# Altium integrated library TI Amplifiers and Linear Operational Amplifier Precision Amplifier Part Two.IntLib: 2300 symbols (part 13 of 81)
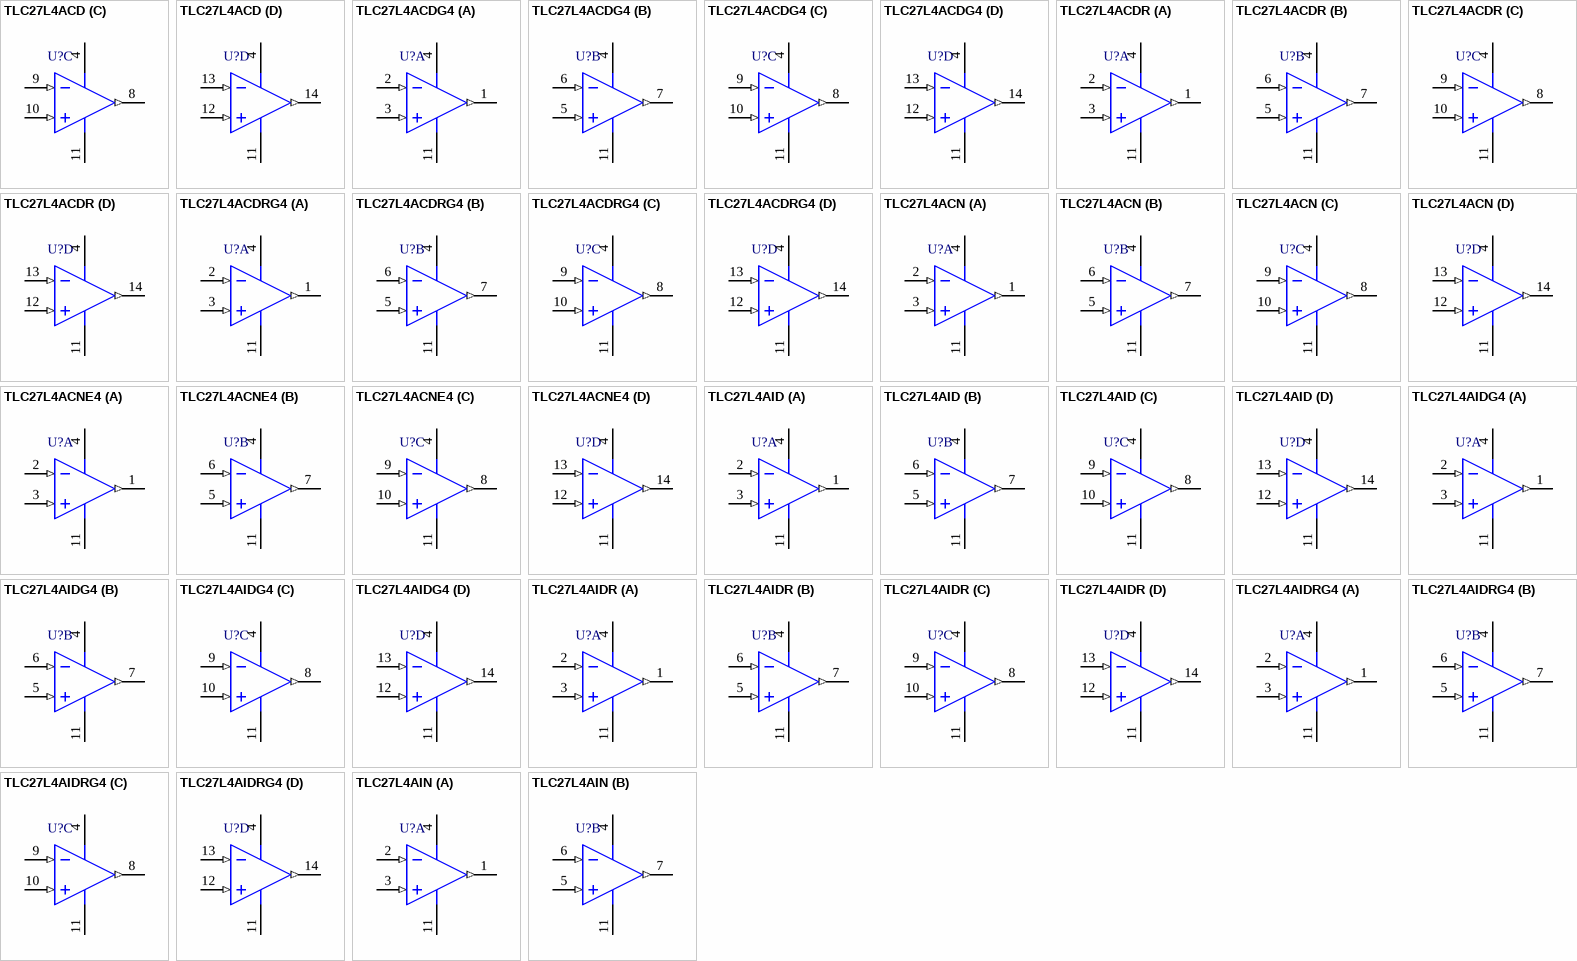
[diagram p148: symbols TLC27L4ACD to TLC27L4AIN]

## TLC27L4ACN
designator U?
LinCMOS(TM) Precision Quad Operational Amplifier, 3 to 16 V, 0 to 70 degC, 14-pin DIP (N14), Pb-Free (RoHS); Manufacturer: Texas Instruments; PartNumber: TLC27L4ACN; CMRR(Min)(dB): 65; GBW(Typ)(MHz): 0.085; IIB(Max)(pA): 600; Iq per channel(Max)(mA): 0.017; Number of Channels: 4; Offset Drift(Typ)(uV/C): 1.1; Packing: TUBE; Rating: Catalog; Slew Rate(Typ)(V/us): 0.03; Sub Family: Low Power Amp (<=500uA), Precision Amplifier; Total Supply Voltage(Max)(+5V is 5, +/-5V is 10): 16; Total Supply Voltage(Min)(+5V is 5, +/-5V is 10): 3; Vio (25C)(Max)(mV): 5; DatasheetVersion: SLOS053C; PackageVersion: 4040049/E, 12/2002; PackageReference: N14; PackageDescription: 14-Pin Plastic In-Line, Body 19.305 x 6.35 mm, Pitch 2.54 mm; Supplier 1: Digi-Key; Supplier Part Number 1: 296-7382-5-ND; Supplier 2: Farnell; Supplier Part Number 2: 9853928; Supplier 3: Newark; Supplier Part Number 3: 35K1191; Supplier 4: Mouser; Supplier Part Number 4: 595-TLC27L4ACN; Eco-Plan: Pb-Free (RoHS); Mounting Technology: Through Hole; Code_JEDEC: MS-001; ComponentLink1Description: Manufacturer URL; ComponentLink1URL: http://www.ti.com/; ComponentLink2Description: Datasheet; ComponentLink2URL: http://www.ti.com/lit/ds/symlink/tlc27l4a.pdf; ComponentLink3Description: Package Specification; ComponentLink3URL: http://www.ti.com/lit/ml/mpdi002c/mpdi002c.pdf
footprint TI-N14 (DIP, 14-Leads, Body 19.305x6.35 mm, Pitch 2.54 mm)
pins on every part: 4 VDD (power), 11 GND (power)
part A pins: 1 OUT1 (out), 2 IN1- (in), 3 IN1+ (in)
part B pins: 5 IN2+ (in), 6 IN2- (in), 7 OUT2 (out)
part C pins: 8 OUT3 (out), 9 IN3- (in), 10 IN3+ (in)
part D pins: 12 IN4+ (in), 13 IN4- (in), 14 OUT4 (out)

## TLC27L4ACNE4
designator U?
LinCMOS(TM) Precision Quad Operational Amplifier, 3 to 16 V, 0 to 70 degC, 14-pin DIP (N14), Pb-Free (RoHS); Manufacturer: Texas Instruments; PartNumber: TLC27L4ACNE4; CMRR(Min)(dB): 65; GBW(Typ)(MHz): 0.085; IIB(Max)(pA): 600; Iq per channel(Max)(mA): 0.017; Number of Channels: 4; Offset Drift(Typ)(uV/C): 1.1; Packing: TUBE; Rating: Catalog; Slew Rate(Typ)(V/us): 0.03; Sub Family: Low Power Amp (<=500uA), Precision Amplifier; Total Supply Voltage(Max)(+5V is 5, +/-5V is 10): 16; Total Supply Voltage(Min)(+5V is 5, +/-5V is 10): 3; Vio (25C)(Max)(mV): 5; DatasheetVersion: SLOS053C; PackageVersion: 4040049/E, 12/2002; PackageReference: N14; PackageDescription: 14-Pin Plastic In-Line, Body 19.305 x 6.35 mm, Pitch 2.54 mm; Supplier 1: Digi-Key; Supplier Part Number 1: TLC27L4ACNE4-ND; Supplier 2: Mouser; Supplier Part Number 2: 595-TLC27L4ACNE4; Eco-Plan: Pb-Free (RoHS); Mounting Technology: Through Hole; Code_JEDEC: MS-001; ComponentLink1Description: Manufacturer URL; ComponentLink1URL: http://www.ti.com/; ComponentLink2Description: Datasheet; ComponentLink2URL: http://www.ti.com/lit/ds/symlink/tlc27l4a.pdf; ComponentLink3Description: Package Specification; ComponentLink3URL: http://www.ti.com/lit/ml/mpdi002c/mpdi002c.pdf
footprint TI-N14 (DIP, 14-Leads, Body 19.305x6.35 mm, Pitch 2.54 mm)
pins on every part: 4 VDD (power), 11 GND (power)
part A pins: 1 OUT1 (out), 2 IN1- (in), 3 IN1+ (in)
part B pins: 5 IN2+ (in), 6 IN2- (in), 7 OUT2 (out)
part C pins: 8 OUT3 (out), 9 IN3- (in), 10 IN3+ (in)
part D pins: 12 IN4+ (in), 13 IN4- (in), 14 OUT4 (out)

## TLC27L4AID
designator U?
LinCMOS(TM) Precision Quad Operational Amplifier, 4 to 16 V, -40 to 85 degC, 14-pin SOIC (D14), Green (RoHS & no Sb/Br); Manufacturer: Texas Instruments; PartNumber: TLC27L4AID; CMRR(Min)(dB): 65; GBW(Typ)(MHz): 0.085; IIB(Max)(pA): 2000; Iq per channel(Max)(mA): 0.017; Number of Channels: 4; Offset Drift(Typ)(uV/C): 1.1; Packing: TUBE; Rating: Catalog; Slew Rate(Typ)(V/us): 0.03; Sub Family: Low Power Amp (<=500uA), Precision Amplifier; Total Supply Voltage(Max)(+5V is 5, +/-5V is 10): 16; Vio (25C)(Max)(mV): 5; DatasheetVersion: SLOS053C; PackageVersion: 4040047-5/M, 06/2011; PackageReference: D14; PackageDescription: 14-Pin Plastic Small Outline, Body 8.65 x 3.9 mm, Pitch 1.27 mm; Supplier 1: Digi-Key; Supplier Part Number 1: 296-7383-5-ND; Supplier 2: Mouser; Supplier Part Number 2: 595-TLC27L4AID; Eco-Plan: Green (RoHS & no Sb/Br); Total Supply Voltage(Min)(+5V is 5, +/-5V is 10): 4; Mounting Technology: Surface Mount; Code_JEDEC: MS-012; ComponentLink1Description: Manufacturer URL; ComponentLink1URL: http://www.ti.com/; ComponentLink2Description: Datasheet; ComponentLink2URL: http://www.ti.com/lit/ds/symlink/tlc27l4a.pdf; ComponentLink3Description: Package Specification; ComponentLink3URL: http://www.ti.com/lit/ml/mpds177g/mpds177g.pdf
footprint TI-D14_N (SOIC, 14-Leads, Body 8.65x3.9mm, Pitch 1.27mm, IPC Medium Density)
footprint TI-D14_L (SOIC, 14-Leads, Body 8.65x3.9mm, Pitch 1.27mm, IPC High Density)
footprint TI-D14_M (SOIC, 14-Leads, Body 8.65x3.9mm, Pitch 1.27mm, IPC Low Density)
pins on every part: 4 VDD (power), 11 GND (power)
part A pins: 1 OUT1 (out), 2 IN1- (in), 3 IN1+ (in)
part B pins: 5 IN2+ (in), 6 IN2- (in), 7 OUT2 (out)
part C pins: 8 OUT3 (out), 9 IN3- (in), 10 IN3+ (in)
part D pins: 12 IN4+ (in), 13 IN4- (in), 14 OUT4 (out)

## TLC27L4AIDG4
designator U?
LinCMOS(TM) Precision Quad Operational Amplifier, 4 to 16 V, -40 to 85 degC, 14-pin SOIC (D14), Green (RoHS & no Sb/Br); Manufacturer: Texas Instruments; PartNumber: TLC27L4AIDG4; CMRR(Min)(dB): 65; GBW(Typ)(MHz): 0.085; IIB(Max)(pA): 2000; Iq per channel(Max)(mA): 0.017; Number of Channels: 4; Offset Drift(Typ)(uV/C): 1.1; Packing: TUBE; Rating: Catalog; Slew Rate(Typ)(V/us): 0.03; Sub Family: Low Power Amp (<=500uA), Precision Amplifier; Total Supply Voltage(Max)(+5V is 5, +/-5V is 10): 16; Vio (25C)(Max)(mV): 5; DatasheetVersion: SLOS053C; PackageVersion: 4040047-5/M, 06/2011; PackageReference: D14; PackageDescription: 14-Pin Plastic Small Outline, Body 8.65 x 3.9 mm, Pitch 1.27 mm; Supplier 1: Digi-Key; Supplier Part Number 1: TLC27L4AIDG4-ND; Supplier 2: Farnell; Supplier Part Number 2: 1234765; Supplier 3: Newark; Supplier Part Number 3: 13M5500; Supplier 4: Mouser; Supplier Part Number 4: 595-TLC27L4AIDG4; Eco-Plan: Green (RoHS & no Sb/Br); Total Supply Voltage(Min)(+5V is 5, +/-5V is 10): 4; Mounting Technology: Surface Mount; Code_JEDEC: MS-012; ComponentLink1Description: Manufacturer URL; ComponentLink1URL: http://www.ti.com/; ComponentLink2Description: Datasheet; ComponentLink2URL: http://www.ti.com/lit/ds/symlink/tlc27l4a.pdf; ComponentLink3Description: Package Specification; ComponentLink3URL: http://www.ti.com/lit/ml/mpds177g/mpds177g.pdf
footprint TI-D14_N (SOIC, 14-Leads, Body 8.65x3.9mm, Pitch 1.27mm, IPC Medium Density)
footprint TI-D14_L (SOIC, 14-Leads, Body 8.65x3.9mm, Pitch 1.27mm, IPC High Density)
footprint TI-D14_M (SOIC, 14-Leads, Body 8.65x3.9mm, Pitch 1.27mm, IPC Low Density)
pins on every part: 4 VDD (power), 11 GND (power)
part A pins: 1 OUT1 (out), 2 IN1- (in), 3 IN1+ (in)
part B pins: 5 IN2+ (in), 6 IN2- (in), 7 OUT2 (out)
part C pins: 8 OUT3 (out), 9 IN3- (in), 10 IN3+ (in)
part D pins: 12 IN4+ (in), 13 IN4- (in), 14 OUT4 (out)

## TLC27L4AIDR
designator U?
LinCMOS(TM) Precision Quad Operational Amplifier, 4 to 16 V, -40 to 85 degC, 14-pin SOIC (D14), Green (RoHS & no Sb/Br); Manufacturer: Texas Instruments; PartNumber: TLC27L4AIDR; CMRR(Min)(dB): 65; GBW(Typ)(MHz): 0.085; IIB(Max)(pA): 2000; Iq per channel(Max)(mA): 0.017; Number of Channels: 4; Offset Drift(Typ)(uV/C): 1.1; Packing: LARGE T&R; Rating: Catalog; Slew Rate(Typ)(V/us): 0.03; Sub Family: Low Power Amp (<=500uA), Precision Amplifier; Total Supply Voltage(Max)(+5V is 5, +/-5V is 10): 16; Vio (25C)(Max)(mV): 5; DatasheetVersion: SLOS053C; PackageVersion: 4040047-5/M, 06/2011; PackageReference: D14; PackageDescription: 14-Pin Plastic Small Outline, Body 8.65 x 3.9 mm, Pitch 1.27 mm; Supplier 1: Digi-Key; Supplier Part Number 1: TLC27L4AIDR-ND; Supplier 2: Newark; Supplier Part Number 2: 76C7101; Supplier 3: Mouser; Supplier Part Number 3: 595-TLC27L4AIDR; Eco-Plan: Green (RoHS & no Sb/Br); Total Supply Voltage(Min)(+5V is 5, +/-5V is 10): 4; Mounting Technology: Surface Mount; Code_JEDEC: MS-012; ComponentLink1Description: Manufacturer URL; ComponentLink1URL: http://www.ti.com/; ComponentLink2Description: Datasheet; ComponentLink2URL: http://www.ti.com/lit/ds/symlink/tlc27l4a.pdf; ComponentLink3Description: Package Specification; ComponentLink3URL: http://www.ti.com/lit/ml/mpds177g/mpds177g.pdf
footprint TI-D14_N (SOIC, 14-Leads, Body 8.65x3.9mm, Pitch 1.27mm, IPC Medium Density)
footprint TI-D14_L (SOIC, 14-Leads, Body 8.65x3.9mm, Pitch 1.27mm, IPC High Density)
footprint TI-D14_M (SOIC, 14-Leads, Body 8.65x3.9mm, Pitch 1.27mm, IPC Low Density)
pins on every part: 4 VDD (power), 11 GND (power)
part A pins: 1 OUT1 (out), 2 IN1- (in), 3 IN1+ (in)
part B pins: 5 IN2+ (in), 6 IN2- (in), 7 OUT2 (out)
part C pins: 8 OUT3 (out), 9 IN3- (in), 10 IN3+ (in)
part D pins: 12 IN4+ (in), 13 IN4- (in), 14 OUT4 (out)

## TLC27L4AIDRG4
designator U?
LinCMOS(TM) Precision Quad Operational Amplifier, 4 to 16 V, -40 to 85 degC, 14-pin SOIC (D14), Green (RoHS & no Sb/Br); Manufacturer: Texas Instruments; PartNumber: TLC27L4AIDRG4; CMRR(Min)(dB): 65; GBW(Typ)(MHz): 0.085; IIB(Max)(pA): 2000; Iq per channel(Max)(mA): 0.017; Number of Channels: 4; Offset Drift(Typ)(uV/C): 1.1; Packing: LARGE T&R; Rating: Catalog; Slew Rate(Typ)(V/us): 0.03; Sub Family: Low Power Amp (<=500uA), Precision Amplifier; Total Supply Voltage(Max)(+5V is 5, +/-5V is 10): 16; Vio (25C)(Max)(mV): 5; DatasheetVersion: SLOS053C; PackageVersion: 4040047-5/M, 06/2011; PackageReference: D14; PackageDescription: 14-Pin Plastic Small Outline, Body 8.65 x 3.9 mm, Pitch 1.27 mm; Supplier 1: Digi-Key; Supplier Part Number 1: TLC27L4AIDRG4-ND; Supplier 2: Mouser; Supplier Part Number 2: 595-TLC27L4AIDRG4; Eco-Plan: Green (RoHS & no Sb/Br); Total Supply Voltage(Min)(+5V is 5, +/-5V is 10): 4; Mounting Technology: Surface Mount; Code_JEDEC: MS-012; ComponentLink1Description: Manufacturer URL; ComponentLink1URL: http://www.ti.com/; ComponentLink2Description: Datasheet; ComponentLink2URL: http://www.ti.com/lit/ds/symlink/tlc27l4a.pdf; ComponentLink3Description: Package Specification; ComponentLink3URL: http://www.ti.com/lit/ml/mpds177g/mpds177g.pdf
footprint TI-D14_N (SOIC, 14-Leads, Body 8.65x3.9mm, Pitch 1.27mm, IPC Medium Density)
footprint TI-D14_L (SOIC, 14-Leads, Body 8.65x3.9mm, Pitch 1.27mm, IPC High Density)
footprint TI-D14_M (SOIC, 14-Leads, Body 8.65x3.9mm, Pitch 1.27mm, IPC Low Density)
pins on every part: 4 VDD (power), 11 GND (power)
part A pins: 1 OUT1 (out), 2 IN1- (in), 3 IN1+ (in)
part B pins: 5 IN2+ (in), 6 IN2- (in), 7 OUT2 (out)
part C pins: 8 OUT3 (out), 9 IN3- (in), 10 IN3+ (in)
part D pins: 12 IN4+ (in), 13 IN4- (in), 14 OUT4 (out)

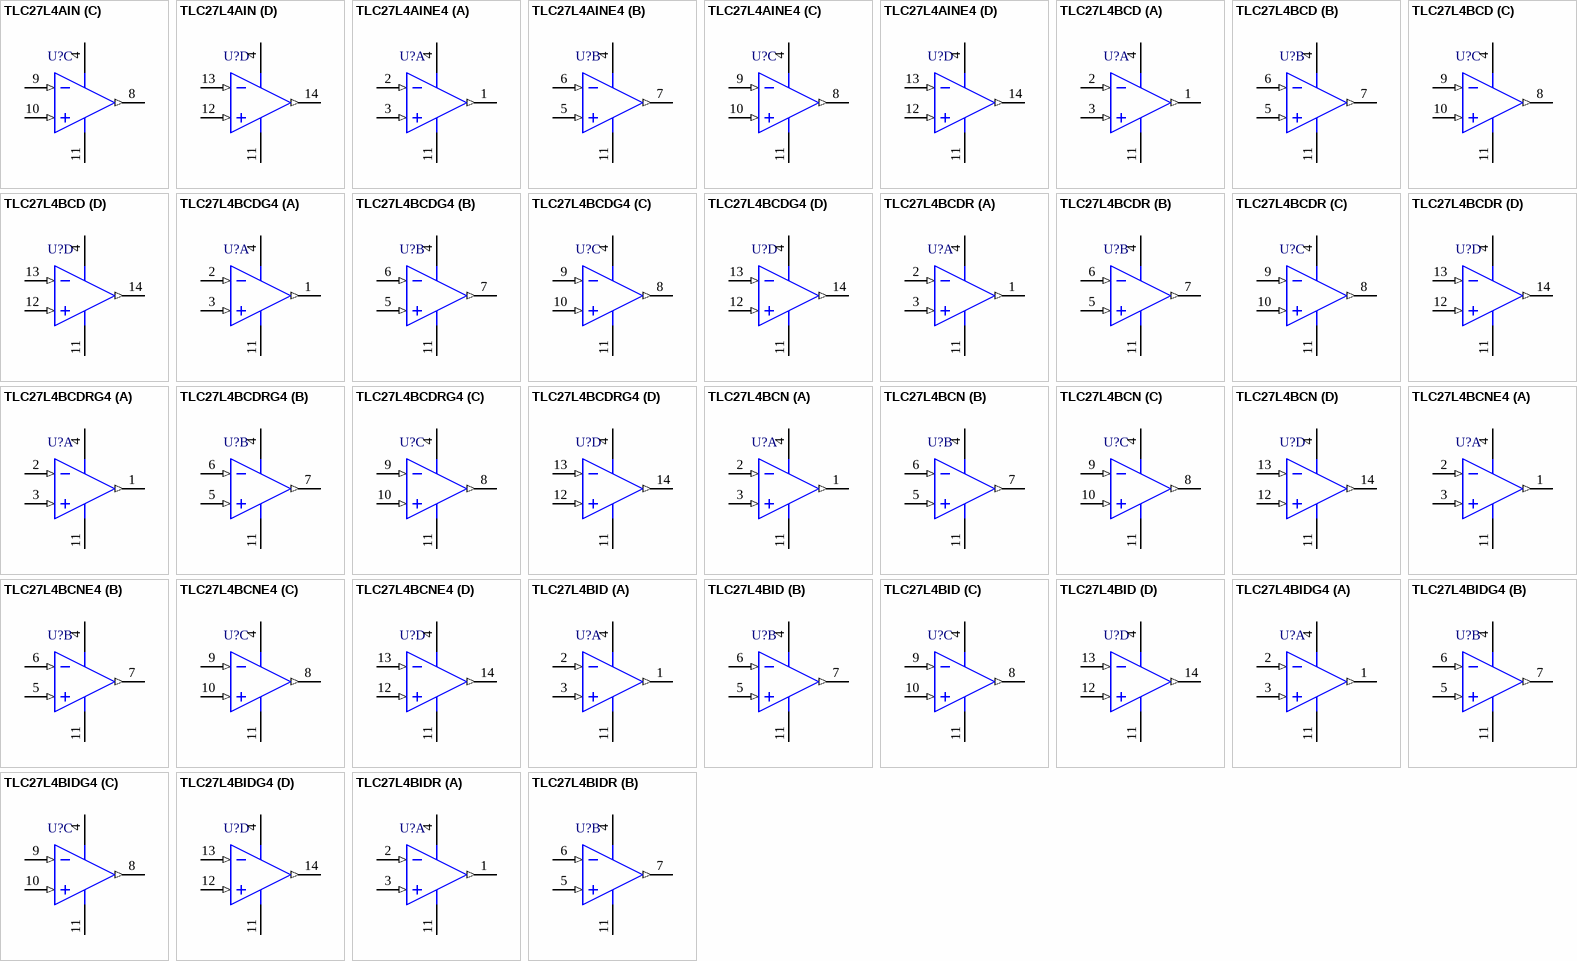
[diagram p19: symbols TLC27L4AIN to TLC27L4BIDR]

## TLC27L4AIN
designator U?
LinCMOS(TM) Precision Quad Operational Amplifier, 4 to 16 V, -40 to 85 degC, 14-pin DIP (N14), Pb-Free (RoHS); Manufacturer: Texas Instruments; PartNumber: TLC27L4AIN; CMRR(Min)(dB): 65; GBW(Typ)(MHz): 0.085; IIB(Max)(pA): 2000; Iq per channel(Max)(mA): 0.017; Number of Channels: 4; Offset Drift(Typ)(uV/C): 1.1; Packing: TUBE; Rating: Catalog; Slew Rate(Typ)(V/us): 0.03; Sub Family: Low Power Amp (<=500uA), Precision Amplifier; Total Supply Voltage(Max)(+5V is 5, +/-5V is 10): 16; Vio (25C)(Max)(mV): 5; DatasheetVersion: SLOS053C; PackageVersion: 4040049/E, 12/2002; PackageReference: N14; PackageDescription: 14-Pin Plastic In-Line, Body 19.305 x 6.35 mm, Pitch 2.54 mm; Supplier 1: Digi-Key; Supplier Part Number 1: 296-7384-5-ND; Supplier 2: Mouser; Supplier Part Number 2: 595-TLC27L4AIN; Eco-Plan: Pb-Free (RoHS); Total Supply Voltage(Min)(+5V is 5, +/-5V is 10): 4; Mounting Technology: Through Hole; Code_JEDEC: MS-001; ComponentLink1Description: Manufacturer URL; ComponentLink1URL: http://www.ti.com/; ComponentLink2Description: Datasheet; ComponentLink2URL: http://www.ti.com/lit/ds/symlink/tlc27l4a.pdf; ComponentLink3Description: Package Specification; ComponentLink3URL: http://www.ti.com/lit/ml/mpdi002c/mpdi002c.pdf
footprint TI-N14 (DIP, 14-Leads, Body 19.305x6.35 mm, Pitch 2.54 mm)
pins on every part: 4 VDD (power), 11 GND (power)
part A pins: 1 OUT1 (out), 2 IN1- (in), 3 IN1+ (in)
part B pins: 5 IN2+ (in), 6 IN2- (in), 7 OUT2 (out)
part C pins: 8 OUT3 (out), 9 IN3- (in), 10 IN3+ (in)
part D pins: 12 IN4+ (in), 13 IN4- (in), 14 OUT4 (out)

## TLC27L4AINE4
designator U?
LinCMOS(TM) Precision Quad Operational Amplifier, 4 to 16 V, -40 to 85 degC, 14-pin DIP (N14), Pb-Free (RoHS); Manufacturer: Texas Instruments; PartNumber: TLC27L4AINE4; CMRR(Min)(dB): 65; GBW(Typ)(MHz): 0.085; IIB(Max)(pA): 2000; Iq per channel(Max)(mA): 0.017; Number of Channels: 4; Offset Drift(Typ)(uV/C): 1.1; Packing: TUBE; Rating: Catalog; Slew Rate(Typ)(V/us): 0.03; Sub Family: Low Power Amp (<=500uA), Precision Amplifier; Total Supply Voltage(Max)(+5V is 5, +/-5V is 10): 16; Vio (25C)(Max)(mV): 5; DatasheetVersion: SLOS053C; PackageVersion: 4040049/E, 12/2002; PackageReference: N14; PackageDescription: 14-Pin Plastic In-Line, Body 19.305 x 6.35 mm, Pitch 2.54 mm; Supplier 1: Digi-Key; Supplier Part Number 1: TLC27L4AINE4-ND; Supplier 2: Mouser; Supplier Part Number 2: 595-TLC27L4AINE4; Eco-Plan: Pb-Free (RoHS); Total Supply Voltage(Min)(+5V is 5, +/-5V is 10): 4; Mounting Technology: Through Hole; Code_JEDEC: MS-001; ComponentLink1Description: Manufacturer URL; ComponentLink1URL: http://www.ti.com/; ComponentLink2Description: Datasheet; ComponentLink2URL: http://www.ti.com/lit/ds/symlink/tlc27l4a.pdf; ComponentLink3Description: Package Specification; ComponentLink3URL: http://www.ti.com/lit/ml/mpdi002c/mpdi002c.pdf
footprint TI-N14 (DIP, 14-Leads, Body 19.305x6.35 mm, Pitch 2.54 mm)
pins on every part: 4 VDD (power), 11 GND (power)
part A pins: 1 OUT1 (out), 2 IN1- (in), 3 IN1+ (in)
part B pins: 5 IN2+ (in), 6 IN2- (in), 7 OUT2 (out)
part C pins: 8 OUT3 (out), 9 IN3- (in), 10 IN3+ (in)
part D pins: 12 IN4+ (in), 13 IN4- (in), 14 OUT4 (out)

## TLC27L4BCD
designator U?
LinCMOS(TM) Precision Quad Operational Amplifier, 3 to 16 V, 0 to 70 degC, 14-pin SOIC (D14), Green (RoHS & no Sb/Br); Manufacturer: Texas Instruments; PartNumber: TLC27L4BCD; CMRR(Min)(dB): 65; GBW(Typ)(MHz): 0.085; IIB(Max)(pA): 600; Iq per channel(Max)(mA): 0.017; Number of Channels: 4; Offset Drift(Typ)(uV/C): 1.1; Packing: TUBE; Rating: Catalog; Slew Rate(Typ)(V/us): 0.03; Sub Family: Low Power Amp (<=500uA), Precision Amplifier; Total Supply Voltage(Max)(+5V is 5, +/-5V is 10): 16; Total Supply Voltage(Min)(+5V is 5, +/-5V is 10): 3; Vio (25C)(Max)(mV): 2; DatasheetVersion: SLOS053C; PackageVersion: 4040047-5/M, 06/2011; PackageReference: D14; PackageDescription: 14-Pin Plastic Small Outline, Body 8.65 x 3.9 mm, Pitch 1.27 mm; Supplier 1: Digi-Key; Supplier Part Number 1: 296-7385-5-ND; Supplier 2: Newark; Supplier Part Number 2: 76C7102; Supplier 3: Mouser; Supplier Part Number 3: 595-TLC27L4BCD; Eco-Plan: Green (RoHS & no Sb/Br); Mounting Technology: Surface Mount; Code_JEDEC: MS-012; ComponentLink1Description: Manufacturer URL; ComponentLink1URL: http://www.ti.com/; ComponentLink2Description: Datasheet; ComponentLink2URL: http://www.ti.com/lit/ds/symlink/tlc27l4b.pdf; ComponentLink3Description: Package Specification; ComponentLink3URL: http://www.ti.com/lit/ml/mpds177g/mpds177g.pdf
footprint TI-D14_N (SOIC, 14-Leads, Body 8.65x3.9mm, Pitch 1.27mm, IPC Medium Density)
footprint TI-D14_L (SOIC, 14-Leads, Body 8.65x3.9mm, Pitch 1.27mm, IPC High Density)
footprint TI-D14_M (SOIC, 14-Leads, Body 8.65x3.9mm, Pitch 1.27mm, IPC Low Density)
pins on every part: 4 VDD (power), 11 GND (power)
part A pins: 1 OUT1 (out), 2 IN1- (in), 3 IN1+ (in)
part B pins: 5 IN2+ (in), 6 IN2- (in), 7 OUT2 (out)
part C pins: 8 OUT3 (out), 9 IN3- (in), 10 IN3+ (in)
part D pins: 12 IN4+ (in), 13 IN4- (in), 14 OUT4 (out)

## TLC27L4BCDG4
designator U?
LinCMOS(TM) Precision Quad Operational Amplifier, 3 to 16 V, 0 to 70 degC, 14-pin SOIC (D14), Green (RoHS & no Sb/Br); Manufacturer: Texas Instruments; PartNumber: TLC27L4BCDG4; CMRR(Min)(dB): 65; GBW(Typ)(MHz): 0.085; IIB(Max)(pA): 600; Iq per channel(Max)(mA): 0.017; Number of Channels: 4; Offset Drift(Typ)(uV/C): 1.1; Packing: TUBE; Rating: Catalog; Slew Rate(Typ)(V/us): 0.03; Sub Family: Low Power Amp (<=500uA), Precision Amplifier; Total Supply Voltage(Max)(+5V is 5, +/-5V is 10): 16; Total Supply Voltage(Min)(+5V is 5, +/-5V is 10): 3; Vio (25C)(Max)(mV): 2; DatasheetVersion: SLOS053C; PackageVersion: 4040047-5/M, 06/2011; PackageReference: D14; PackageDescription: 14-Pin Plastic Small Outline, Body 8.65 x 3.9 mm, Pitch 1.27 mm; Supplier 1: Digi-Key; Supplier Part Number 1: TLC27L4BCDG4-ND; Supplier 2: Mouser; Supplier Part Number 2: 595-TLC27L4BCDG4; Eco-Plan: Green (RoHS & no Sb/Br); Mounting Technology: Surface Mount; Code_JEDEC: MS-012; ComponentLink1Description: Manufacturer URL; ComponentLink1URL: http://www.ti.com/; ComponentLink2Description: Datasheet; ComponentLink2URL: http://www.ti.com/lit/ds/symlink/tlc27l4b.pdf; ComponentLink3Description: Package Specification; ComponentLink3URL: http://www.ti.com/lit/ml/mpds177g/mpds177g.pdf
footprint TI-D14_N (SOIC, 14-Leads, Body 8.65x3.9mm, Pitch 1.27mm, IPC Medium Density)
footprint TI-D14_L (SOIC, 14-Leads, Body 8.65x3.9mm, Pitch 1.27mm, IPC High Density)
footprint TI-D14_M (SOIC, 14-Leads, Body 8.65x3.9mm, Pitch 1.27mm, IPC Low Density)
pins on every part: 4 VDD (power), 11 GND (power)
part A pins: 1 OUT1 (out), 2 IN1- (in), 3 IN1+ (in)
part B pins: 5 IN2+ (in), 6 IN2- (in), 7 OUT2 (out)
part C pins: 8 OUT3 (out), 9 IN3- (in), 10 IN3+ (in)
part D pins: 12 IN4+ (in), 13 IN4- (in), 14 OUT4 (out)

## TLC27L4BCDR
designator U?
LinCMOS(TM) Precision Quad Operational Amplifier, 3 to 16 V, 0 to 70 degC, 14-pin SOIC (D14), Green (RoHS & no Sb/Br); Manufacturer: Texas Instruments; PartNumber: TLC27L4BCDR; CMRR(Min)(dB): 65; GBW(Typ)(MHz): 0.085; IIB(Max)(pA): 600; Iq per channel(Max)(mA): 0.017; Number of Channels: 4; Offset Drift(Typ)(uV/C): 1.1; Packing: LARGE T&R; Rating: Catalog; Slew Rate(Typ)(V/us): 0.03; Sub Family: Low Power Amp (<=500uA), Precision Amplifier; Total Supply Voltage(Max)(+5V is 5, +/-5V is 10): 16; Total Supply Voltage(Min)(+5V is 5, +/-5V is 10): 3; Vio (25C)(Max)(mV): 2; DatasheetVersion: SLOS053C; PackageVersion: 4040047-5/M, 06/2011; PackageReference: D14; PackageDescription: 14-Pin Plastic Small Outline, Body 8.65 x 3.9 mm, Pitch 1.27 mm; Supplier 1: Digi-Key; Supplier Part Number 1: TLC27L4BCDR-ND; Supplier 2: Mouser; Supplier Part Number 2: 595-TLC27L4BCDR; Eco-Plan: Green (RoHS & no Sb/Br); Mounting Technology: Surface Mount; Code_JEDEC: MS-012; ComponentLink1Description: Manufacturer URL; ComponentLink1URL: http://www.ti.com/; ComponentLink2Description: Datasheet; ComponentLink2URL: http://www.ti.com/lit/ds/symlink/tlc27l4b.pdf; ComponentLink3Description: Package Specification; ComponentLink3URL: http://www.ti.com/lit/ml/mpds177g/mpds177g.pdf
footprint TI-D14_N (SOIC, 14-Leads, Body 8.65x3.9mm, Pitch 1.27mm, IPC Medium Density)
footprint TI-D14_L (SOIC, 14-Leads, Body 8.65x3.9mm, Pitch 1.27mm, IPC High Density)
footprint TI-D14_M (SOIC, 14-Leads, Body 8.65x3.9mm, Pitch 1.27mm, IPC Low Density)
pins on every part: 4 VDD (power), 11 GND (power)
part A pins: 1 OUT1 (out), 2 IN1- (in), 3 IN1+ (in)
part B pins: 5 IN2+ (in), 6 IN2- (in), 7 OUT2 (out)
part C pins: 8 OUT3 (out), 9 IN3- (in), 10 IN3+ (in)
part D pins: 12 IN4+ (in), 13 IN4- (in), 14 OUT4 (out)

## TLC27L4BCDRG4
designator U?
LinCMOS(TM) Precision Quad Operational Amplifier, 3 to 16 V, 0 to 70 degC, 14-pin SOIC (D14), Green (RoHS & no Sb/Br); Manufacturer: Texas Instruments; PartNumber: TLC27L4BCDRG4; CMRR(Min)(dB): 65; GBW(Typ)(MHz): 0.085; IIB(Max)(pA): 600; Iq per channel(Max)(mA): 0.017; Number of Channels: 4; Offset Drift(Typ)(uV/C): 1.1; Packing: LARGE T&R; Rating: Catalog; Slew Rate(Typ)(V/us): 0.03; Sub Family: Low Power Amp (<=500uA), Precision Amplifier; Total Supply Voltage(Max)(+5V is 5, +/-5V is 10): 16; Total Supply Voltage(Min)(+5V is 5, +/-5V is 10): 3; Vio (25C)(Max)(mV): 2; DatasheetVersion: SLOS053C; PackageVersion: 4040047-5/M, 06/2011; PackageReference: D14; PackageDescription: 14-Pin Plastic Small Outline, Body 8.65 x 3.9 mm, Pitch 1.27 mm; Supplier 1: Digi-Key; Supplier Part Number 1: TLC27L4BCDRG4-ND; Supplier 2: Mouser; Supplier Part Number 2: 595-TLC27L4BCDRG4; Eco-Plan: Green (RoHS & no Sb/Br); Mounting Technology: Surface Mount; Code_JEDEC: MS-012; ComponentLink1Description: Manufacturer URL; ComponentLink1URL: http://www.ti.com/; ComponentLink2Description: Datasheet; ComponentLink2URL: http://www.ti.com/lit/ds/symlink/tlc27l4b.pdf; ComponentLink3Description: Package Specification; ComponentLink3URL: http://www.ti.com/lit/ml/mpds177g/mpds177g.pdf
footprint TI-D14_N (SOIC, 14-Leads, Body 8.65x3.9mm, Pitch 1.27mm, IPC Medium Density)
footprint TI-D14_L (SOIC, 14-Leads, Body 8.65x3.9mm, Pitch 1.27mm, IPC High Density)
footprint TI-D14_M (SOIC, 14-Leads, Body 8.65x3.9mm, Pitch 1.27mm, IPC Low Density)
pins on every part: 4 VDD (power), 11 GND (power)
part A pins: 1 OUT1 (out), 2 IN1- (in), 3 IN1+ (in)
part B pins: 5 IN2+ (in), 6 IN2- (in), 7 OUT2 (out)
part C pins: 8 OUT3 (out), 9 IN3- (in), 10 IN3+ (in)
part D pins: 12 IN4+ (in), 13 IN4- (in), 14 OUT4 (out)

## TLC27L4BCN
designator U?
LinCMOS(TM) Precision Quad Operational Amplifier, 3 to 16 V, 0 to 70 degC, 14-pin DIP (N14), Pb-Free (RoHS); Manufacturer: Texas Instruments; PartNumber: TLC27L4BCN; CMRR(Min)(dB): 65; GBW(Typ)(MHz): 0.085; IIB(Max)(pA): 600; Iq per channel(Max)(mA): 0.017; Number of Channels: 4; Offset Drift(Typ)(uV/C): 1.1; Packing: TUBE; Rating: Catalog; Slew Rate(Typ)(V/us): 0.03; Sub Family: Low Power Amp (<=500uA), Precision Amplifier; Total Supply Voltage(Max)(+5V is 5, +/-5V is 10): 16; Total Supply Voltage(Min)(+5V is 5, +/-5V is 10): 3; Vio (25C)(Max)(mV): 2; DatasheetVersion: SLOS053C; PackageVersion: 4040049/E, 12/2002; PackageReference: N14; PackageDescription: 14-Pin Plastic In-Line, Body 19.305 x 6.35 mm, Pitch 2.54 mm; Supplier 1: Digi-Key; Supplier Part Number 1: 296-7386-5-ND; Supplier 2: Mouser; Supplier Part Number 2: 595-TLC27L4BCN; Eco-Plan: Pb-Free (RoHS); Mounting Technology: Through Hole; Code_JEDEC: MS-001; ComponentLink1Description: Manufacturer URL; ComponentLink1URL: http://www.ti.com/; ComponentLink2Description: Datasheet; ComponentLink2URL: http://www.ti.com/lit/ds/symlink/tlc27l4b.pdf; ComponentLink3Description: Package Specification; ComponentLink3URL: http://www.ti.com/lit/ml/mpdi002c/mpdi002c.pdf
footprint TI-N14 (DIP, 14-Leads, Body 19.305x6.35 mm, Pitch 2.54 mm)
pins on every part: 4 VDD (power), 11 GND (power)
part A pins: 1 OUT1 (out), 2 IN1- (in), 3 IN1+ (in)
part B pins: 5 IN2+ (in), 6 IN2- (in), 7 OUT2 (out)
part C pins: 8 OUT3 (out), 9 IN3- (in), 10 IN3+ (in)
part D pins: 12 IN4+ (in), 13 IN4- (in), 14 OUT4 (out)

## TLC27L4BCNE4
designator U?
LinCMOS(TM) Precision Quad Operational Amplifier, 3 to 16 V, 0 to 70 degC, 14-pin DIP (N14), Pb-Free (RoHS); Manufacturer: Texas Instruments; PartNumber: TLC27L4BCNE4; CMRR(Min)(dB): 65; GBW(Typ)(MHz): 0.085; IIB(Max)(pA): 600; Iq per channel(Max)(mA): 0.017; Number of Channels: 4; Offset Drift(Typ)(uV/C): 1.1; Packing: TUBE; Rating: Catalog; Slew Rate(Typ)(V/us): 0.03; Sub Family: Low Power Amp (<=500uA), Precision Amplifier; Total Supply Voltage(Max)(+5V is 5, +/-5V is 10): 16; Total Supply Voltage(Min)(+5V is 5, +/-5V is 10): 3; Vio (25C)(Max)(mV): 2; DatasheetVersion: SLOS053C; PackageVersion: 4040049/E, 12/2002; PackageReference: N14; PackageDescription: 14-Pin Plastic In-Line, Body 19.305 x 6.35 mm, Pitch 2.54 mm; Supplier 1: Digi-Key; Supplier Part Number 1: TLC27L4BCNE4-ND; Supplier 2: Mouser; Supplier Part Number 2: 595-TLC27L4BCNE4; Eco-Plan: Pb-Free (RoHS); Mounting Technology: Through Hole; Code_JEDEC: MS-001; ComponentLink1Description: Manufacturer URL; ComponentLink1URL: http://www.ti.com/; ComponentLink2Description: Datasheet; ComponentLink2URL: http://www.ti.com/lit/ds/symlink/tlc27l4b.pdf; ComponentLink3Description: Package Specification; ComponentLink3URL: http://www.ti.com/lit/ml/mpdi002c/mpdi002c.pdf
footprint TI-N14 (DIP, 14-Leads, Body 19.305x6.35 mm, Pitch 2.54 mm)
pins on every part: 4 VDD (power), 11 GND (power)
part A pins: 1 OUT1 (out), 2 IN1- (in), 3 IN1+ (in)
part B pins: 5 IN2+ (in), 6 IN2- (in), 7 OUT2 (out)
part C pins: 8 OUT3 (out), 9 IN3- (in), 10 IN3+ (in)
part D pins: 12 IN4+ (in), 13 IN4- (in), 14 OUT4 (out)

## TLC27L4BID
designator U?
LinCMOS(TM) Precision Quad Operational Amplifier, 4 to 16 V, -40 to 85 degC, 14-pin SOIC (D14), Green (RoHS & no Sb/Br); Manufacturer: Texas Instruments; PartNumber: TLC27L4BID; CMRR(Min)(dB): 65; GBW(Typ)(MHz): 0.085; IIB(Max)(pA): 2000; Iq per channel(Max)(mA): 0.017; Number of Channels: 4; Offset Drift(Typ)(uV/C): 1.1; Packing: TUBE; Rating: Catalog; Slew Rate(Typ)(V/us): 0.03; Sub Family: Low Power Amp (<=500uA), Precision Amplifier; Total Supply Voltage(Max)(+5V is 5, +/-5V is 10): 16; Vio (25C)(Max)(mV): 2; DatasheetVersion: SLOS053C; PackageVersion: 4040047-5/M, 06/2011; PackageReference: D14; PackageDescription: 14-Pin Plastic Small Outline, Body 8.65 x 3.9 mm, Pitch 1.27 mm; Supplier 1: Digi-Key; Supplier Part Number 1: 296-7387-5-ND; Supplier 2: Mouser; Supplier Part Number 2: 595-TLC27L4BID; Eco-Plan: Green (RoHS & no Sb/Br); Total Supply Voltage(Min)(+5V is 5, +/-5V is 10): 4; Mounting Technology: Surface Mount; Code_JEDEC: MS-012; ComponentLink1Description: Manufacturer URL; ComponentLink1URL: http://www.ti.com/; ComponentLink2Description: Datasheet; ComponentLink2URL: http://www.ti.com/lit/ds/symlink/tlc27l4b.pdf; ComponentLink3Description: Package Specification; ComponentLink3URL: http://www.ti.com/lit/ml/mpds177g/mpds177g.pdf
footprint TI-D14_N (SOIC, 14-Leads, Body 8.65x3.9mm, Pitch 1.27mm, IPC Medium Density)
footprint TI-D14_L (SOIC, 14-Leads, Body 8.65x3.9mm, Pitch 1.27mm, IPC High Density)
footprint TI-D14_M (SOIC, 14-Leads, Body 8.65x3.9mm, Pitch 1.27mm, IPC Low Density)
pins on every part: 4 VDD (power), 11 GND (power)
part A pins: 1 OUT1 (out), 2 IN1- (in), 3 IN1+ (in)
part B pins: 5 IN2+ (in), 6 IN2- (in), 7 OUT2 (out)
part C pins: 8 OUT3 (out), 9 IN3- (in), 10 IN3+ (in)
part D pins: 12 IN4+ (in), 13 IN4- (in), 14 OUT4 (out)

## TLC27L4BIDG4
designator U?
LinCMOS(TM) Precision Quad Operational Amplifier, 4 to 16 V, -40 to 85 degC, 14-pin SOIC (D14), Green (RoHS & no Sb/Br); Manufacturer: Texas Instruments; PartNumber: TLC27L4BIDG4; CMRR(Min)(dB): 65; GBW(Typ)(MHz): 0.085; IIB(Max)(pA): 2000; Iq per channel(Max)(mA): 0.017; Number of Channels: 4; Offset Drift(Typ)(uV/C): 1.1; Packing: TUBE; Rating: Catalog; Slew Rate(Typ)(V/us): 0.03; Sub Family: Low Power Amp (<=500uA), Precision Amplifier; Total Supply Voltage(Max)(+5V is 5, +/-5V is 10): 16; Vio (25C)(Max)(mV): 2; DatasheetVersion: SLOS053C; PackageVersion: 4040047-5/M, 06/2011; PackageReference: D14; PackageDescription: 14-Pin Plastic Small Outline, Body 8.65 x 3.9 mm, Pitch 1.27 mm; Supplier 1: Digi-Key; Supplier Part Number 1: TLC27L4BIDG4-ND; Supplier 2: Mouser; Supplier Part Number 2: 595-TLC27L4BIDG4; Eco-Plan: Green (RoHS & no Sb/Br); Total Supply Voltage(Min)(+5V is 5, +/-5V is 10): 4; Mounting Technology: Surface Mount; Code_JEDEC: MS-012; ComponentLink1Description: Manufacturer URL; ComponentLink1URL: http://www.ti.com/; ComponentLink2Description: Datasheet; ComponentLink2URL: http://www.ti.com/lit/ds/symlink/tlc27l4b.pdf; ComponentLink3Description: Package Specification; ComponentLink3URL: http://www.ti.com/lit/ml/mpds177g/mpds177g.pdf
footprint TI-D14_N (SOIC, 14-Leads, Body 8.65x3.9mm, Pitch 1.27mm, IPC Medium Density)
footprint TI-D14_L (SOIC, 14-Leads, Body 8.65x3.9mm, Pitch 1.27mm, IPC High Density)
footprint TI-D14_M (SOIC, 14-Leads, Body 8.65x3.9mm, Pitch 1.27mm, IPC Low Density)
pins on every part: 4 VDD (power), 11 GND (power)
part A pins: 1 OUT1 (out), 2 IN1- (in), 3 IN1+ (in)
part B pins: 5 IN2+ (in), 6 IN2- (in), 7 OUT2 (out)
part C pins: 8 OUT3 (out), 9 IN3- (in), 10 IN3+ (in)
part D pins: 12 IN4+ (in), 13 IN4- (in), 14 OUT4 (out)

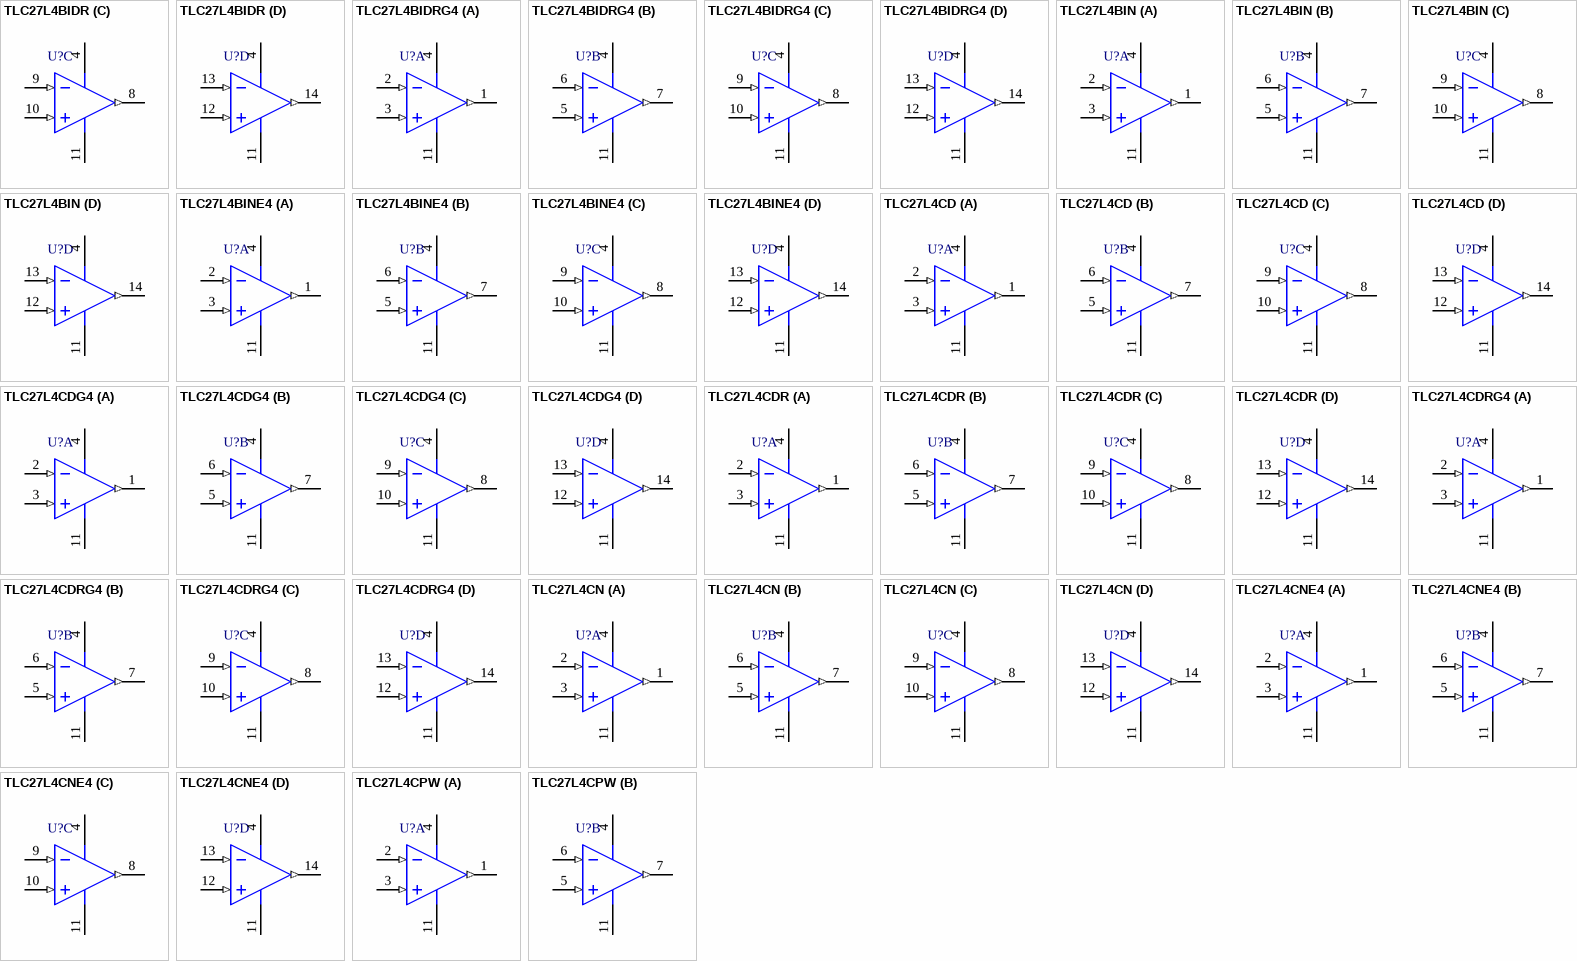
[diagram p20: symbols TLC27L4BIDR to TLC27L4CPW]

## TLC27L4BIDR
designator U?
LinCMOS(TM) Precision Quad Operational Amplifier, 4 to 16 V, -40 to 85 degC, 14-pin SOIC (D14), Green (RoHS & no Sb/Br); Manufacturer: Texas Instruments; PartNumber: TLC27L4BIDR; CMRR(Min)(dB): 65; GBW(Typ)(MHz): 0.085; IIB(Max)(pA): 2000; Iq per channel(Max)(mA): 0.017; Number of Channels: 4; Offset Drift(Typ)(uV/C): 1.1; Packing: LARGE T&R; Rating: Catalog; Slew Rate(Typ)(V/us): 0.03; Sub Family: Low Power Amp (<=500uA), Precision Amplifier; Total Supply Voltage(Max)(+5V is 5, +/-5V is 10): 16; Vio (25C)(Max)(mV): 2; DatasheetVersion: SLOS053C; PackageVersion: 4040047-5/M, 06/2011; PackageReference: D14; PackageDescription: 14-Pin Plastic Small Outline, Body 8.65 x 3.9 mm, Pitch 1.27 mm; Supplier 1: Digi-Key; Supplier Part Number 1: TLC27L4BIDR-ND; Supplier 2: Mouser; Supplier Part Number 2: 595-TLC27L4BIDR; Eco-Plan: Green (RoHS & no Sb/Br); Total Supply Voltage(Min)(+5V is 5, +/-5V is 10): 4; Mounting Technology: Surface Mount; Code_JEDEC: MS-012; ComponentLink1Description: Manufacturer URL; ComponentLink1URL: http://www.ti.com/; ComponentLink2Description: Datasheet; ComponentLink2URL: http://www.ti.com/lit/ds/symlink/tlc27l4b.pdf; ComponentLink3Description: Package Specification; ComponentLink3URL: http://www.ti.com/lit/ml/mpds177g/mpds177g.pdf
footprint TI-D14_N (SOIC, 14-Leads, Body 8.65x3.9mm, Pitch 1.27mm, IPC Medium Density)
footprint TI-D14_L (SOIC, 14-Leads, Body 8.65x3.9mm, Pitch 1.27mm, IPC High Density)
footprint TI-D14_M (SOIC, 14-Leads, Body 8.65x3.9mm, Pitch 1.27mm, IPC Low Density)
pins on every part: 4 VDD (power), 11 GND (power)
part A pins: 1 OUT1 (out), 2 IN1- (in), 3 IN1+ (in)
part B pins: 5 IN2+ (in), 6 IN2- (in), 7 OUT2 (out)
part C pins: 8 OUT3 (out), 9 IN3- (in), 10 IN3+ (in)
part D pins: 12 IN4+ (in), 13 IN4- (in), 14 OUT4 (out)

## TLC27L4BIDRG4
designator U?
LinCMOS(TM) Precision Quad Operational Amplifier, 4 to 16 V, -40 to 85 degC, 14-pin SOIC (D14), Green (RoHS & no Sb/Br); Manufacturer: Texas Instruments; PartNumber: TLC27L4BIDRG4; CMRR(Min)(dB): 65; GBW(Typ)(MHz): 0.085; IIB(Max)(pA): 2000; Iq per channel(Max)(mA): 0.017; Number of Channels: 4; Offset Drift(Typ)(uV/C): 1.1; Packing: LARGE T&R; Rating: Catalog; Slew Rate(Typ)(V/us): 0.03; Sub Family: Low Power Amp (<=500uA), Precision Amplifier; Total Supply Voltage(Max)(+5V is 5, +/-5V is 10): 16; Vio (25C)(Max)(mV): 2; DatasheetVersion: SLOS053C; PackageVersion: 4040047-5/M, 06/2011; PackageReference: D14; PackageDescription: 14-Pin Plastic Small Outline, Body 8.65 x 3.9 mm, Pitch 1.27 mm; Supplier 1: Digi-Key; Supplier Part Number 1: TLC27L4BIDRG4-ND; Supplier 2: Mouser; Supplier Part Number 2: 595-TLC27L4BIDRG4; Eco-Plan: Green (RoHS & no Sb/Br); Total Supply Voltage(Min)(+5V is 5, +/-5V is 10): 4; Mounting Technology: Surface Mount; Code_JEDEC: MS-012; ComponentLink1Description: Manufacturer URL; ComponentLink1URL: http://www.ti.com/; ComponentLink2Description: Datasheet; ComponentLink2URL: http://www.ti.com/lit/ds/symlink/tlc27l4b.pdf; ComponentLink3Description: Package Specification; ComponentLink3URL: http://www.ti.com/lit/ml/mpds177g/mpds177g.pdf
footprint TI-D14_N (SOIC, 14-Leads, Body 8.65x3.9mm, Pitch 1.27mm, IPC Medium Density)
footprint TI-D14_L (SOIC, 14-Leads, Body 8.65x3.9mm, Pitch 1.27mm, IPC High Density)
footprint TI-D14_M (SOIC, 14-Leads, Body 8.65x3.9mm, Pitch 1.27mm, IPC Low Density)
pins on every part: 4 VDD (power), 11 GND (power)
part A pins: 1 OUT1 (out), 2 IN1- (in), 3 IN1+ (in)
part B pins: 5 IN2+ (in), 6 IN2- (in), 7 OUT2 (out)
part C pins: 8 OUT3 (out), 9 IN3- (in), 10 IN3+ (in)
part D pins: 12 IN4+ (in), 13 IN4- (in), 14 OUT4 (out)

## TLC27L4BIN
designator U?
LinCMOS(TM) Precision Quad Operational Amplifier, 4 to 16 V, -40 to 85 degC, 14-pin DIP (N14), Pb-Free (RoHS); Manufacturer: Texas Instruments; PartNumber: TLC27L4BIN; CMRR(Min)(dB): 65; GBW(Typ)(MHz): 0.085; IIB(Max)(pA): 2000; Iq per channel(Max)(mA): 0.017; Number of Channels: 4; Offset Drift(Typ)(uV/C): 1.1; Packing: TUBE; Rating: Catalog; Slew Rate(Typ)(V/us): 0.03; Sub Family: Low Power Amp (<=500uA), Precision Amplifier; Total Supply Voltage(Max)(+5V is 5, +/-5V is 10): 16; Vio (25C)(Max)(mV): 2; DatasheetVersion: SLOS053C; PackageVersion: 4040049/E, 12/2002; PackageReference: N14; PackageDescription: 14-Pin Plastic In-Line, Body 19.305 x 6.35 mm, Pitch 2.54 mm; Supplier 1: Digi-Key; Supplier Part Number 1: 296-7388-5-ND; Supplier 2: Mouser; Supplier Part Number 2: 595-TLC27L4BIN; Eco-Plan: Pb-Free (RoHS); Total Supply Voltage(Min)(+5V is 5, +/-5V is 10): 4; Mounting Technology: Through Hole; Code_JEDEC: MS-001; ComponentLink1Description: Manufacturer URL; ComponentLink1URL: http://www.ti.com/; ComponentLink2Description: Datasheet; ComponentLink2URL: http://www.ti.com/lit/ds/symlink/tlc27l4b.pdf; ComponentLink3Description: Package Specification; ComponentLink3URL: http://www.ti.com/lit/ml/mpdi002c/mpdi002c.pdf
footprint TI-N14 (DIP, 14-Leads, Body 19.305x6.35 mm, Pitch 2.54 mm)
pins on every part: 4 VDD (power), 11 GND (power)
part A pins: 1 OUT1 (out), 2 IN1- (in), 3 IN1+ (in)
part B pins: 5 IN2+ (in), 6 IN2- (in), 7 OUT2 (out)
part C pins: 8 OUT3 (out), 9 IN3- (in), 10 IN3+ (in)
part D pins: 12 IN4+ (in), 13 IN4- (in), 14 OUT4 (out)

## TLC27L4BINE4
designator U?
LinCMOS(TM) Precision Quad Operational Amplifier, 4 to 16 V, -40 to 85 degC, 14-pin DIP (N14), Pb-Free (RoHS); Manufacturer: Texas Instruments; PartNumber: TLC27L4BINE4; CMRR(Min)(dB): 65; GBW(Typ)(MHz): 0.085; IIB(Max)(pA): 2000; Iq per channel(Max)(mA): 0.017; Number of Channels: 4; Offset Drift(Typ)(uV/C): 1.1; Packing: TUBE; Rating: Catalog; Slew Rate(Typ)(V/us): 0.03; Sub Family: Low Power Amp (<=500uA), Precision Amplifier; Total Supply Voltage(Max)(+5V is 5, +/-5V is 10): 16; Vio (25C)(Max)(mV): 2; DatasheetVersion: SLOS053C; PackageVersion: 4040049/E, 12/2002; PackageReference: N14; PackageDescription: 14-Pin Plastic In-Line, Body 19.305 x 6.35 mm, Pitch 2.54 mm; Supplier 1: Digi-Key; Supplier Part Number 1: TLC27L4BINE4-ND; Supplier 2: Mouser; Supplier Part Number 2: 595-TLC27L4BINE4; Eco-Plan: Pb-Free (RoHS); Total Supply Voltage(Min)(+5V is 5, +/-5V is 10): 4; Mounting Technology: Through Hole; Code_JEDEC: MS-001; ComponentLink1Description: Manufacturer URL; ComponentLink1URL: http://www.ti.com/; ComponentLink2Description: Datasheet; ComponentLink2URL: http://www.ti.com/lit/ds/symlink/tlc27l4b.pdf; ComponentLink3Description: Package Specification; ComponentLink3URL: http://www.ti.com/lit/ml/mpdi002c/mpdi002c.pdf
footprint TI-N14 (DIP, 14-Leads, Body 19.305x6.35 mm, Pitch 2.54 mm)
pins on every part: 4 VDD (power), 11 GND (power)
part A pins: 1 OUT1 (out), 2 IN1- (in), 3 IN1+ (in)
part B pins: 5 IN2+ (in), 6 IN2- (in), 7 OUT2 (out)
part C pins: 8 OUT3 (out), 9 IN3- (in), 10 IN3+ (in)
part D pins: 12 IN4+ (in), 13 IN4- (in), 14 OUT4 (out)

## TLC27L4CD
designator U?
Quad Precision Single Supply uPower Operational Amplifier, 3 to 16 V, 0 to 70 degC, 14-pin SOIC (D14), Green (RoHS & no Sb/Br); Manufacturer: Texas Instruments; PartNumber: TLC27L4CD; CMRR(Min)(dB): 65; GBW(Typ)(MHz): 0.085; IIB(Max)(pA): 600; Iq per channel(Max)(mA): 0.017; Number of Channels: 4; Offset Drift(Typ)(uV/C): 1.1; Packing: TUBE; Rating: Military; Slew Rate(Typ)(V/us): 0.03; Sub Family: Low Power Amp (<=500uA), Precision Amplifier; Total Supply Voltage(Max)(+5V is 5, +/-5V is 10): 16; Total Supply Voltage(Min)(+5V is 5, +/-5V is 10): 3; Vio (25C)(Max)(mV): 10; DatasheetVersion: SLOS053C; PackageVersion: 4040047-5/M, 06/2011; PackageReference: D14; PackageDescription: 14-Pin Plastic Small Outline, Body 8.65 x 3.9 mm, Pitch 1.27 mm; Supplier 1: Digi-Key; Supplier Part Number 1: 296-1318-5-ND; Supplier 2: Farnell; Supplier Part Number 2: 1106127; Supplier 3: Newark; Supplier Part Number 3: 24M8279; Supplier 4: Newark; Supplier Part Number 4: 67K1259; Supplier 5: Mouser; Supplier Part Number 5: 595-TLC27L4CD; Eco-Plan: Green (RoHS & no Sb/Br); Mounting Technology: Surface Mount; Code_JEDEC: MS-012; ComponentLink1Description: Manufacturer URL; ComponentLink1URL: http://www.ti.com/; ComponentLink2Description: Datasheet; ComponentLink2URL: http://www.ti.com/lit/ds/symlink/tlc27l4.pdf; ComponentLink3Description: Package Specification; ComponentLink3URL: http://www.ti.com/lit/ml/mpds177g/mpds177g.pdf
footprint TI-D14_N (SOIC, 14-Leads, Body 8.65x3.9mm, Pitch 1.27mm, IPC Medium Density)
footprint TI-D14_L (SOIC, 14-Leads, Body 8.65x3.9mm, Pitch 1.27mm, IPC High Density)
footprint TI-D14_M (SOIC, 14-Leads, Body 8.65x3.9mm, Pitch 1.27mm, IPC Low Density)
pins on every part: 4 VDD (power), 11 GND (power)
part A pins: 1 OUT1 (out), 2 IN1- (in), 3 IN1+ (in)
part B pins: 5 IN2+ (in), 6 IN2- (in), 7 OUT2 (out)
part C pins: 8 OUT3 (out), 9 IN3- (in), 10 IN3+ (in)
part D pins: 12 IN4+ (in), 13 IN4- (in), 14 OUT4 (out)

## TLC27L4CDG4
designator U?
Quad Precision Single Supply uPower Operational Amplifier, 3 to 16 V, 0 to 70 degC, 14-pin SOIC (D14), Green (RoHS & no Sb/Br); Manufacturer: Texas Instruments; PartNumber: TLC27L4CDG4; CMRR(Min)(dB): 65; GBW(Typ)(MHz): 0.085; IIB(Max)(pA): 600; Iq per channel(Max)(mA): 0.017; Number of Channels: 4; Offset Drift(Typ)(uV/C): 1.1; Packing: TUBE; Rating: Military; Slew Rate(Typ)(V/us): 0.03; Sub Family: Low Power Amp (<=500uA), Precision Amplifier; Total Supply Voltage(Max)(+5V is 5, +/-5V is 10): 16; Total Supply Voltage(Min)(+5V is 5, +/-5V is 10): 3; Vio (25C)(Max)(mV): 10; DatasheetVersion: SLOS053C; PackageVersion: 4040047-5/M, 06/2011; PackageReference: D14; PackageDescription: 14-Pin Plastic Small Outline, Body 8.65 x 3.9 mm, Pitch 1.27 mm; Supplier 1: Digi-Key; Supplier Part Number 1: TLC27L4CDG4-ND; Supplier 2: Mouser; Supplier Part Number 2: 595-TLC27L4CDG4; Eco-Plan: Green (RoHS & no Sb/Br); Mounting Technology: Surface Mount; Code_JEDEC: MS-012; ComponentLink1Description: Manufacturer URL; ComponentLink1URL: http://www.ti.com/; ComponentLink2Description: Datasheet; ComponentLink2URL: http://www.ti.com/lit/ds/symlink/tlc27l4.pdf; ComponentLink3Description: Package Specification; ComponentLink3URL: http://www.ti.com/lit/ml/mpds177g/mpds177g.pdf
footprint TI-D14_N (SOIC, 14-Leads, Body 8.65x3.9mm, Pitch 1.27mm, IPC Medium Density)
footprint TI-D14_L (SOIC, 14-Leads, Body 8.65x3.9mm, Pitch 1.27mm, IPC High Density)
footprint TI-D14_M (SOIC, 14-Leads, Body 8.65x3.9mm, Pitch 1.27mm, IPC Low Density)
pins on every part: 4 VDD (power), 11 GND (power)
part A pins: 1 OUT1 (out), 2 IN1- (in), 3 IN1+ (in)
part B pins: 5 IN2+ (in), 6 IN2- (in), 7 OUT2 (out)
part C pins: 8 OUT3 (out), 9 IN3- (in), 10 IN3+ (in)
part D pins: 12 IN4+ (in), 13 IN4- (in), 14 OUT4 (out)

## TLC27L4CDR
designator U?
Quad Precision Single Supply uPower Operational Amplifier, 3 to 16 V, 0 to 70 degC, 14-pin SOIC (D14), Green (RoHS & no Sb/Br); Manufacturer: Texas Instruments; PartNumber: TLC27L4CDR; CMRR(Min)(dB): 65; GBW(Typ)(MHz): 0.085; IIB(Max)(pA): 600; Iq per channel(Max)(mA): 0.017; Number of Channels: 4; Offset Drift(Typ)(uV/C): 1.1; Packing: LARGE T&R; Rating: Military; Slew Rate(Typ)(V/us): 0.03; Sub Family: Low Power Amp (<=500uA), Precision Amplifier; Total Supply Voltage(Max)(+5V is 5, +/-5V is 10): 16; Total Supply Voltage(Min)(+5V is 5, +/-5V is 10): 3; Vio (25C)(Max)(mV): 10; DatasheetVersion: SLOS053C; PackageVersion: 4040047-5/M, 06/2011; PackageReference: D14; PackageDescription: 14-Pin Plastic Small Outline, Body 8.65 x 3.9 mm, Pitch 1.27 mm; Supplier 1: Digi-Key; Supplier Part Number 1: 296-1318-2-ND; Supplier 2: Digi-Key; Supplier Part Number 2: 296-1318-1-ND; Supplier 3: Digi-Key; Supplier Part Number 3: 296-1318-6-ND; Supplier 4: Newark; Supplier Part Number 4: 35C2127; Supplier 5: Mouser; Supplier Part Number 5: 595-TLC27L4CDR; Eco-Plan: Green (RoHS & no Sb/Br); Mounting Technology: Surface Mount; Code_JEDEC: MS-012; ComponentLink1Description: Manufacturer URL; ComponentLink1URL: http://www.ti.com/; ComponentLink2Description: Datasheet; ComponentLink2URL: http://www.ti.com/lit/ds/symlink/tlc27l4.pdf; ComponentLink3Description: Package Specification; ComponentLink3URL: http://www.ti.com/lit/ml/mpds177g/mpds177g.pdf
footprint TI-D14_N (SOIC, 14-Leads, Body 8.65x3.9mm, Pitch 1.27mm, IPC Medium Density)
footprint TI-D14_L (SOIC, 14-Leads, Body 8.65x3.9mm, Pitch 1.27mm, IPC High Density)
footprint TI-D14_M (SOIC, 14-Leads, Body 8.65x3.9mm, Pitch 1.27mm, IPC Low Density)
pins on every part: 4 VDD (power), 11 GND (power)
part A pins: 1 OUT1 (out), 2 IN1- (in), 3 IN1+ (in)
part B pins: 5 IN2+ (in), 6 IN2- (in), 7 OUT2 (out)
part C pins: 8 OUT3 (out), 9 IN3- (in), 10 IN3+ (in)
part D pins: 12 IN4+ (in), 13 IN4- (in), 14 OUT4 (out)

## TLC27L4CDRG4
designator U?
Quad Precision Single Supply uPower Operational Amplifier, 3 to 16 V, 0 to 70 degC, 14-pin SOIC (D14), Green (RoHS & no Sb/Br); Manufacturer: Texas Instruments; PartNumber: TLC27L4CDRG4; CMRR(Min)(dB): 65; GBW(Typ)(MHz): 0.085; IIB(Max)(pA): 600; Iq per channel(Max)(mA): 0.017; Number of Channels: 4; Offset Drift(Typ)(uV/C): 1.1; Packing: LARGE T&R; Rating: Military; Slew Rate(Typ)(V/us): 0.03; Sub Family: Low Power Amp (<=500uA), Precision Amplifier; Total Supply Voltage(Max)(+5V is 5, +/-5V is 10): 16; Total Supply Voltage(Min)(+5V is 5, +/-5V is 10): 3; Vio (25C)(Max)(mV): 10; DatasheetVersion: SLOS053C; PackageVersion: 4040047-5/M, 06/2011; PackageReference: D14; PackageDescription: 14-Pin Plastic Small Outline, Body 8.65 x 3.9 mm, Pitch 1.27 mm; Supplier 1: Digi-Key; Supplier Part Number 1: TLC27L4CDRG4-ND; Supplier 2: Mouser; Supplier Part Number 2: 595-TLC27L4CDRG4; Eco-Plan: Green (RoHS & no Sb/Br); Mounting Technology: Surface Mount; Code_JEDEC: MS-012; ComponentLink1Description: Manufacturer URL; ComponentLink1URL: http://www.ti.com/; ComponentLink2Description: Datasheet; ComponentLink2URL: http://www.ti.com/lit/ds/symlink/tlc27l4.pdf; ComponentLink3Description: Package Specification; ComponentLink3URL: http://www.ti.com/lit/ml/mpds177g/mpds177g.pdf
footprint TI-D14_N (SOIC, 14-Leads, Body 8.65x3.9mm, Pitch 1.27mm, IPC Medium Density)
footprint TI-D14_L (SOIC, 14-Leads, Body 8.65x3.9mm, Pitch 1.27mm, IPC High Density)
footprint TI-D14_M (SOIC, 14-Leads, Body 8.65x3.9mm, Pitch 1.27mm, IPC Low Density)
pins on every part: 4 VDD (power), 11 GND (power)
part A pins: 1 OUT1 (out), 2 IN1- (in), 3 IN1+ (in)
part B pins: 5 IN2+ (in), 6 IN2- (in), 7 OUT2 (out)
part C pins: 8 OUT3 (out), 9 IN3- (in), 10 IN3+ (in)
part D pins: 12 IN4+ (in), 13 IN4- (in), 14 OUT4 (out)

## TLC27L4CN
designator U?
Quad Precision Single Supply uPower Operational Amplifier, 3 to 16 V, 0 to 70 degC, 14-pin DIP (N14), Pb-Free (RoHS); Manufacturer: Texas Instruments; PartNumber: TLC27L4CN; CMRR(Min)(dB): 65; GBW(Typ)(MHz): 0.085; IIB(Max)(pA): 600; Iq per channel(Max)(mA): 0.017; Number of Channels: 4; Offset Drift(Typ)(uV/C): 1.1; Packing: TUBE; Rating: Military; Slew Rate(Typ)(V/us): 0.03; Sub Family: Low Power Amp (<=500uA), Precision Amplifier; Total Supply Voltage(Max)(+5V is 5, +/-5V is 10): 16; Total Supply Voltage(Min)(+5V is 5, +/-5V is 10): 3; Vio (25C)(Max)(mV): 10; DatasheetVersion: SLOS053C; PackageVersion: 4040049/E, 12/2002; PackageReference: N14; PackageDescription: 14-Pin Plastic In-Line, Body 19.305 x 6.35 mm, Pitch 2.54 mm; Supplier 1: Digi-Key; Supplier Part Number 1: 296-7389-5-ND; Supplier 2: Farnell; Supplier Part Number 2: 1103017; Supplier 3: Newark; Supplier Part Number 3: 24M8280; Supplier 4: Newark; Supplier Part Number 4: 35K1192; Supplier 5: Mouser; Supplier Part Number 5: 595-TLC27L4CN; Eco-Plan: Pb-Free (RoHS); Mounting Technology: Through Hole; Code_JEDEC: MS-001; ComponentLink1Description: Manufacturer URL; ComponentLink1URL: http://www.ti.com/; ComponentLink2Description: Datasheet; ComponentLink2URL: http://www.ti.com/lit/ds/symlink/tlc27l4.pdf; ComponentLink3Description: Package Specification; ComponentLink3URL: http://www.ti.com/lit/ml/mpdi002c/mpdi002c.pdf
footprint TI-N14 (DIP, 14-Leads, Body 19.305x6.35 mm, Pitch 2.54 mm)
pins on every part: 4 VDD (power), 11 GND (power)
part A pins: 1 OUT1 (out), 2 IN1- (in), 3 IN1+ (in)
part B pins: 5 IN2+ (in), 6 IN2- (in), 7 OUT2 (out)
part C pins: 8 OUT3 (out), 9 IN3- (in), 10 IN3+ (in)
part D pins: 12 IN4+ (in), 13 IN4- (in), 14 OUT4 (out)

## TLC27L4CNE4
designator U?
Quad Precision Single Supply uPower Operational Amplifier, 3 to 16 V, 0 to 70 degC, 14-pin DIP (N14), Pb-Free (RoHS); Manufacturer: Texas Instruments; PartNumber: TLC27L4CNE4; CMRR(Min)(dB): 65; GBW(Typ)(MHz): 0.085; IIB(Max)(pA): 600; Iq per channel(Max)(mA): 0.017; Number of Channels: 4; Offset Drift(Typ)(uV/C): 1.1; Packing: TUBE; Rating: Military; Slew Rate(Typ)(V/us): 0.03; Sub Family: Low Power Amp (<=500uA), Precision Amplifier; Total Supply Voltage(Max)(+5V is 5, +/-5V is 10): 16; Total Supply Voltage(Min)(+5V is 5, +/-5V is 10): 3; Vio (25C)(Max)(mV): 10; DatasheetVersion: SLOS053C; PackageVersion: 4040049/E, 12/2002; PackageReference: N14; PackageDescription: 14-Pin Plastic In-Line, Body 19.305 x 6.35 mm, Pitch 2.54 mm; Supplier 1: Digi-Key; Supplier Part Number 1: TLC27L4CNE4-ND; Supplier 2: Mouser; Supplier Part Number 2: 595-TLC27L4CNE4; Eco-Plan: Pb-Free (RoHS); Mounting Technology: Through Hole; Code_JEDEC: MS-001; ComponentLink1Description: Manufacturer URL; ComponentLink1URL: http://www.ti.com/; ComponentLink2Description: Datasheet; ComponentLink2URL: http://www.ti.com/lit/ds/symlink/tlc27l4.pdf; ComponentLink3Description: Package Specification; ComponentLink3URL: http://www.ti.com/lit/ml/mpdi002c/mpdi002c.pdf
footprint TI-N14 (DIP, 14-Leads, Body 19.305x6.35 mm, Pitch 2.54 mm)
pins on every part: 4 VDD (power), 11 GND (power)
part A pins: 1 OUT1 (out), 2 IN1- (in), 3 IN1+ (in)
part B pins: 5 IN2+ (in), 6 IN2- (in), 7 OUT2 (out)
part C pins: 8 OUT3 (out), 9 IN3- (in), 10 IN3+ (in)
part D pins: 12 IN4+ (in), 13 IN4- (in), 14 OUT4 (out)

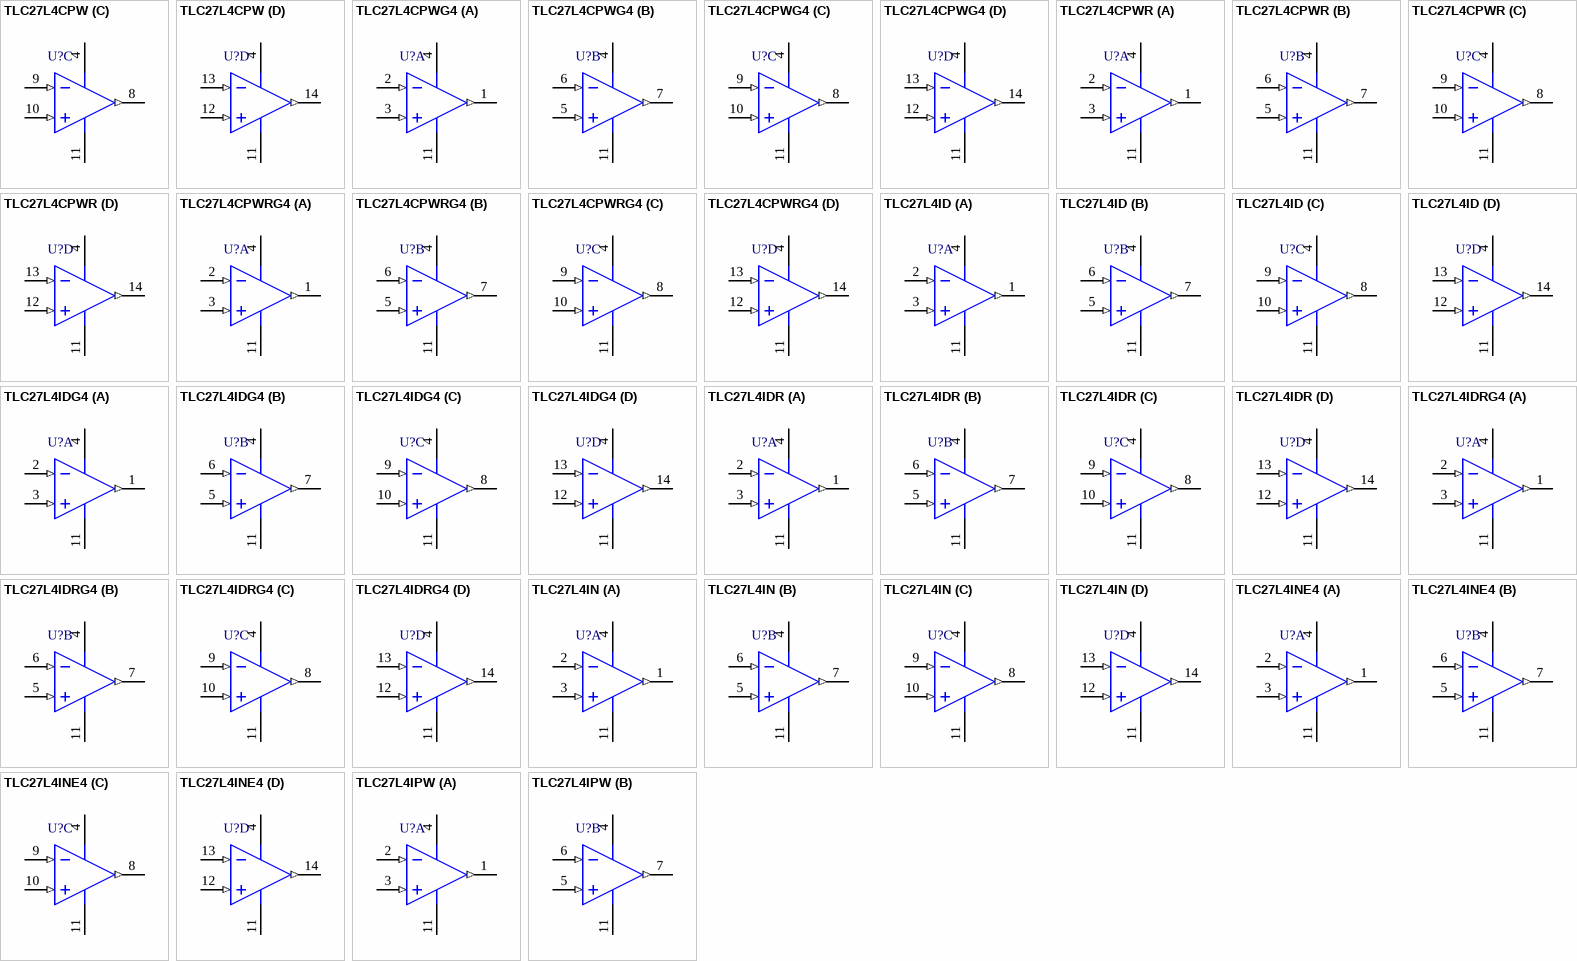
[diagram p21: symbols TLC27L4CPW to TLC27L4IPW]

## TLC27L4CPW
designator U?
Quad Precision Single Supply uPower Operational Amplifier, 3 to 16 V, 0 to 70 degC, 14-pin SOP (PW14), Green (RoHS & no Sb/Br); Manufacturer: Texas Instruments; PartNumber: TLC27L4CPW; CMRR(Min)(dB): 65; GBW(Typ)(MHz): 0.085; IIB(Max)(pA): 600; Iq per channel(Max)(mA): 0.017; Number of Channels: 4; Offset Drift(Typ)(uV/C): 1.1; Packing: TUBE; Rating: Military; Slew Rate(Typ)(V/us): 0.03; Sub Family: Low Power Amp (<=500uA), Precision Amplifier; Total Supply Voltage(Max)(+5V is 5, +/-5V is 10): 16; Total Supply Voltage(Min)(+5V is 5, +/-5V is 10): 3; Vio (25C)(Max)(mV): 10; DatasheetVersion: SLOS053C; PackageVersion: 4040064-3/G, 02/2011; PackageReference: PW14; PackageDescription: 14-Pin Plastic Small Outline, Body 5 x 4.4 mm, Pitch 0.65 mm; Supplier 1: Digi-Key; Supplier Part Number 1: 296-34351-5-ND; Supplier 2: Mouser; Supplier Part Number 2: 595-TLC27L4CPW; Eco-Plan: Green (RoHS & no Sb/Br); Mounting Technology: Surface Mount; Code_JEDEC: MO-153; ComponentLink1Description: Manufacturer URL; ComponentLink1URL: http://www.ti.com/; ComponentLink2Description: Datasheet; ComponentLink2URL: http://www.ti.com/lit/ds/symlink/tlc27l4.pdf; ComponentLink3Description: Package Specification; ComponentLink3URL: http://www.ti.com/litv/pdf/mpds360
footprint TI-PW14_N (SOP, 14-Leads, Body 5x4.4mm, Pitch 0.65mm, IPC Medium Density)
footprint TI-PW14_L (SOP, 14-Leads, Body 5x4.4mm, Pitch 0.65mm, IPC High Density)
footprint TI-PW14_M (SOP, 14-Leads, Body 5x4.4mm, Pitch 0.65mm, IPC Low Density)
pins on every part: 4 VDD (power), 11 GND (power)
part A pins: 1 OUT1 (out), 2 IN1- (in), 3 IN1+ (in)
part B pins: 5 IN2+ (in), 6 IN2- (in), 7 OUT2 (out)
part C pins: 8 OUT3 (out), 9 IN3- (in), 10 IN3+ (in)
part D pins: 12 IN4+ (in), 13 IN4- (in), 14 OUT4 (out)

## TLC27L4CPWG4
designator U?
Quad Precision Single Supply uPower Operational Amplifier, 3 to 16 V, 0 to 70 degC, 14-pin SOP (PW14), Green (RoHS & no Sb/Br); Manufacturer: Texas Instruments; PartNumber: TLC27L4CPWG4; CMRR(Min)(dB): 65; GBW(Typ)(MHz): 0.085; IIB(Max)(pA): 600; Iq per channel(Max)(mA): 0.017; Number of Channels: 4; Offset Drift(Typ)(uV/C): 1.1; Packing: TUBE; Rating: Military; Slew Rate(Typ)(V/us): 0.03; Sub Family: Low Power Amp (<=500uA), Precision Amplifier; Total Supply Voltage(Max)(+5V is 5, +/-5V is 10): 16; Total Supply Voltage(Min)(+5V is 5, +/-5V is 10): 3; Vio (25C)(Max)(mV): 10; DatasheetVersion: SLOS053C; PackageVersion: 4040064-3/G, 02/2011; PackageReference: PW14; PackageDescription: 14-Pin Plastic Small Outline, Body 5 x 4.4 mm, Pitch 0.65 mm; Supplier 1: Digi-Key; Supplier Part Number 1: TLC27L4CPWG4-ND; Supplier 2: Mouser; Supplier Part Number 2: 595-TLC27L4CPWG4; Eco-Plan: Green (RoHS & no Sb/Br); Mounting Technology: Surface Mount; Code_JEDEC: MO-153; ComponentLink1Description: Manufacturer URL; ComponentLink1URL: http://www.ti.com/; ComponentLink2Description: Datasheet; ComponentLink2URL: http://www.ti.com/lit/ds/symlink/tlc27l4.pdf; ComponentLink3Description: Package Specification; ComponentLink3URL: http://www.ti.com/litv/pdf/mpds360
footprint TI-PW14_N (SOP, 14-Leads, Body 5x4.4mm, Pitch 0.65mm, IPC Medium Density)
footprint TI-PW14_L (SOP, 14-Leads, Body 5x4.4mm, Pitch 0.65mm, IPC High Density)
footprint TI-PW14_M (SOP, 14-Leads, Body 5x4.4mm, Pitch 0.65mm, IPC Low Density)
pins on every part: 4 VDD (power), 11 GND (power)
part A pins: 1 OUT1 (out), 2 IN1- (in), 3 IN1+ (in)
part B pins: 5 IN2+ (in), 6 IN2- (in), 7 OUT2 (out)
part C pins: 8 OUT3 (out), 9 IN3- (in), 10 IN3+ (in)
part D pins: 12 IN4+ (in), 13 IN4- (in), 14 OUT4 (out)